# Altium footprint library SwitchButton.PcbLib: 1 footprints
Each footprint in its own frame and in the unit in brackets; x right, y up, seen from the top. Pads: shape width x height; smd on the part's side, far side on the other; paste and mask are expansions set on the pad; w line width, h text height; cw(c..) or ccw(c..) is an arc to the next point about the centre after c.
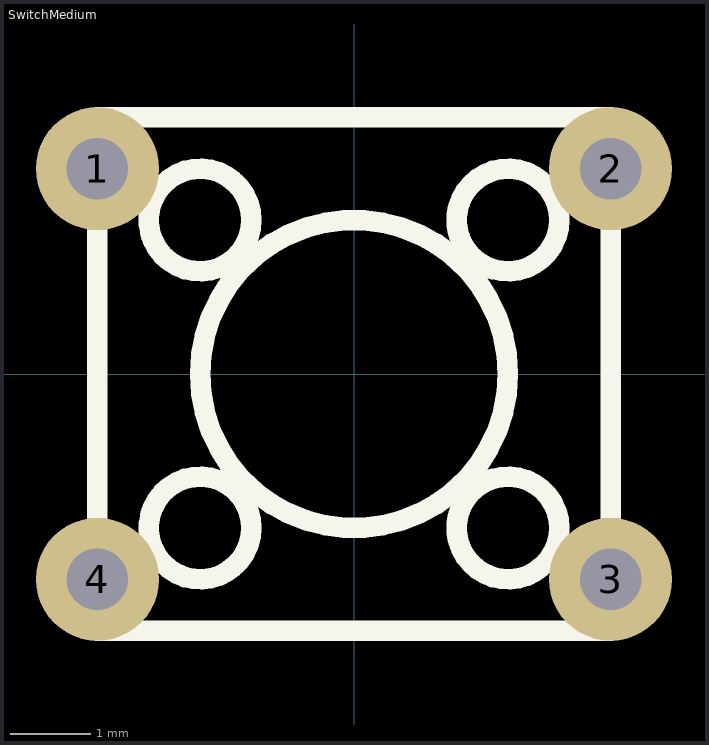
[diagram p0: the footprint, top view; thin cyan lines are the x and y axes]

## SwitchMedium [mil]
height 314.96
pads (4):
  round 60 hole 30: 1(-125,100) 2(125,100) 3(125,-100) 4(-125,-100)
Top Overlay:
  circle w10: c0,0 r75
  circle w10: c75,-75 r25
  circle w10: c75,75 r25
  circle w10: c-75,-75 r25
  circle w10: c-75,75 r25
  lines w10: -125,-125 -125,125 125,125 125,-125 -125,-125